# Altium footprint library Components.PcbLib: 15 footprints
Each footprint in its own frame and in the unit in brackets; x right, y up, seen from the top. Pads: shape width x height; smd on the part's side, far side on the other; paste and mask are expansions set on the pad; w line width, h text height; cw(c..) or ccw(c..) is an arc to the next point about the centre after c.
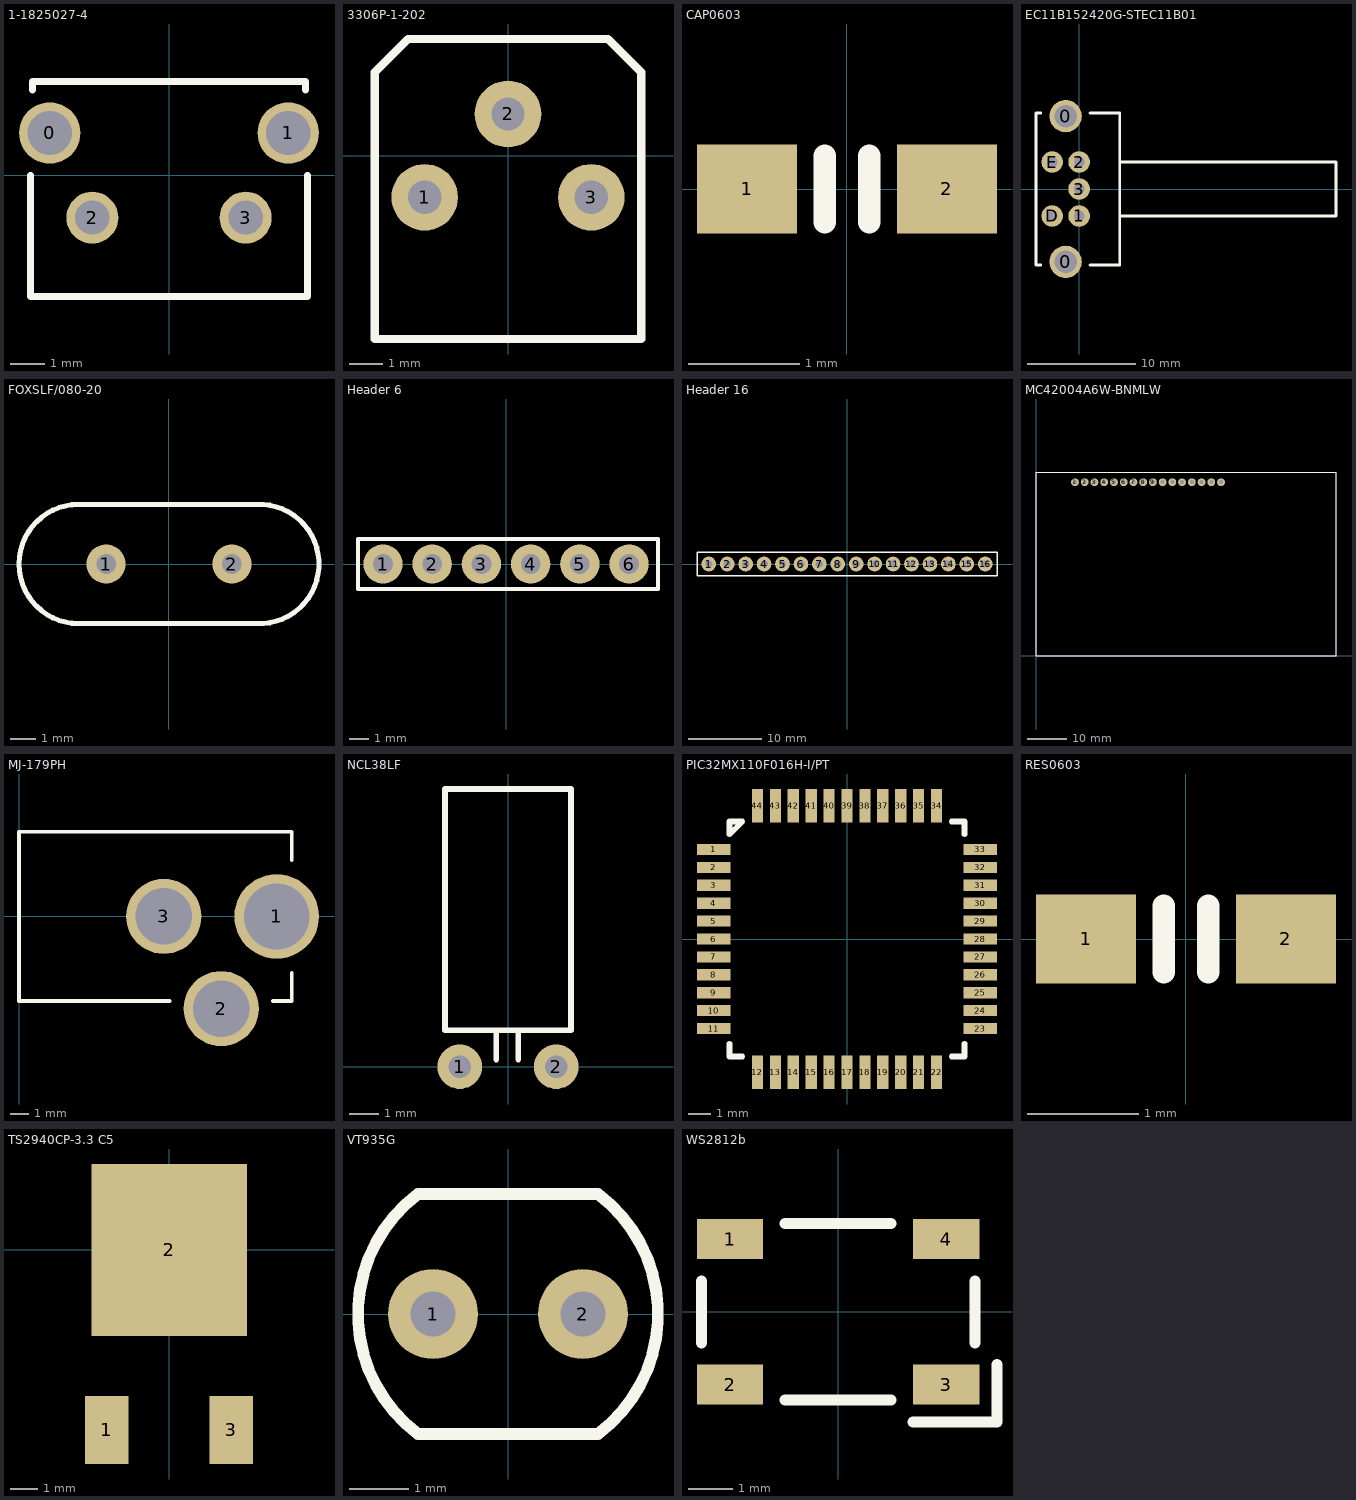
[diagram p0: the footprints below, top view; thin cyan lines are the x and y axes]

## 1-1825027-4 [mm] "Button"
pads (4):
  round 1.8 hole 1.3 unplated: 0(-3.5,1.24) 1(3.5,1.24)
  round 1.524 hole 1: 2(-2.25,-1.245) 3(2.25,-1.245)
Top Overlay:
  lines w0.2: -4.064,0 -4.064,-3.556 4.064,-3.556 4.064,0 ; -4,2.5 -4,2.75 -2.5,2.75 2.5,2.75 4,2.75 4,2.5
3D body: height 2.58, standoff 1.42, extent 1.389,-3 2.547,-2.8
3D body: height 2.58, standoff 1.42, extent -2.558,-3 -1.4,-2.8
3D body: height 6.58, standoff 5.42, extent 1.389,-3 2.547,-2.8
3D body: height 6.58, standoff 5.42, extent -2.558,-3 -1.4,-2.8
3D body: height 7, standoff 0, extent -3,-2.85 3,-2.6
3D body: height 5.74, standoff 2.25, extent -1.747,-3.3 1.746,-2.8
3D body: height 6.9, standoff 0.2, extent -3,-2.6 3,0.85
3D body: height 5, standoff 2, extent 3,-2.862 3.1,1.4
3D body: height 5, standoff 2, extent -3.1,-2.863 -3,1.8
3D body: height 5, standoff 0, extent -3.2,0.8 -3.1,1.8
3D body: height 5, standoff 0, extent 3.1,0.4 3.2,1.4

## 3306P-1-202 [mm] "Trimpot"
pads (3):
  round 2 hole 1: 1(-2.5,-1.25) 2(0,1.25) 3(2.5,-1.25)
Top Overlay:
  lines w0.254: -4,-5.5 -4,2.5 -3,3.5 -2.5,3.5 3,3.5 4,2.5 4,-5.5 -4,-5.5
3D body: height 3.51, standoff 0, extent 2.004,-1.749 3,-0.751
3D body: height 3.51, standoff 0, extent -0.496,0.751 0.5,1.749
3D body: height 3.51, standoff 0, extent -2.996,-1.749 -2,-0.751
3D body: height 4.51, standoff 3.51, extent -3.4,-5.1 3.4,2.95
3D body: height 8.06, standoff 4.55, extent -1.984,-2.896 2,1.096
3D body: height 8.04, standoff 4.53, extent -3.373,-4.293 3.4,2.493

## CAP0603 [mm]
pads (2):
  rect 0.9x0.8 smd: 1(-0.9,0) 2(0.9,0)
Top Overlay:
  lines w0.2: -0.2,-0.3 -0.2,0.3 ; 0.2,-0.3 0.2,0.3
3D body: height 1, standoff 0, extent -0.7,-0.525 0.7,0.525
3D body: height 1, standoff 0, extent -1,-0.525 -0.7,0.525
3D body: height 1, standoff 0, extent 0.7,-0.525 1,0.525

## EC11B152420G-STEC11B01 [mm]
pads (7):
  round 3 hole 2.1: 0(-1.25,-6.75) 0(-1.25,6.75)
  round 2 hole 1: 1(0,-2.5) 2(0,2.5) 3(0,0) D(-2.5,-2.5) E(-2.5,2.5)
Top Overlay:
  lines w0.254: -3.55,-7.05 -4,-7.05 -4,7.05 -3.55,7.05 ; 1,-7.05 3.75,-7.05 3.75,7.05 1,7.05 ; 3.75,-2.5 23.8,-2.5 23.8,2.5 3.75,2.5
3D body: height 6.9, standoff 6.1, extent 14.5,-2.275 24.025,2.275
3D body: height 8.73, standoff 4.25, extent 11,-2.241 12,2.25
3D body: height 13.75, standoff 0, extent 0.75,-7 3.5,7
3D body: height 13.75, standoff 0, extent -4,-7 0.75,7
3D body: height 9.48, standoff 3.5, extent 3.5,-2.99 4,2.999
3D body: height 8.98, standoff 4, extent 4,-2.491 11,2.5
3D body: height 8.73, standoff 4.25, extent 12,-2.241 24,2.25

## FOXSLF/080-20 [mil] "8MHz XTAL"
pads (2):
  round 60 hole 30: 1(-96.46,0) 2(96.46,0)
Top Overlay:
  lines w7.87: -139.69,-91.54 136.14,-91.54 ; -139.69,91.54 136.14,91.54 ; -138.5,-91.54 cw(c-138.5,0) -138.5,91.54 ; 134.96,-91.54 ccw(c138.5,0) 134.96,91.54
3D body: height 141.73, standoff 0, extent 63.94,-74.64 212.95,74.67
3D body: height 19.68, standoff 0, extent -223.72,-86.44 -51.17,86.45
3D body: height 19.68, standoff 0, extent -137.45,-86.44 138.14,86.45
3D body: height 141.73, standoff 0, extent -129.92,-74.8 129.92,74.8
3D body: height 19.68, standoff 0, extent 51.87,-86.44 224.42,86.45
3D body: height 141.73, standoff 0, extent -212,-74.65 -62.99,74.66

## Header 6 [mm] "Header 6"
pads (6):
  round 2 hole 1: 1(-6.25,0) 2(-3.75,0) 3(-1.25,0) 4(1.25,0) 5(3.75,0) 6(6.25,0)
Top Overlay:
  lines w0.2: -7.52,-1.27 -7.52,1.27 7.72,1.27 7.72,-1.27 -7.52,-1.27
3D body: height 7.48, standoff 2.92, extent -7.75,-1.5 8,1.5
3D body: height 2.92, standoff 0, extent -6.448,-0.199 -6.05,0.2
3D body: height 2.92, standoff 0, extent -3.948,-0.199 -3.55,0.2
3D body: height 2.92, standoff 0, extent -1.448,-0.199 -1.05,0.2
3D body: height 2.92, standoff 0, extent 1.052,-0.199 1.45,0.2
3D body: height 7.5, standoff 0, extent 3.056,-0.698 4.45,0.699
3D body: height 2.92, standoff 0, extent 6.052,-0.199 6.45,0.2

## Header 16 [mm] "Header 16"
pads (16):
  round 2 hole 1: 1(-18.75,0) 2(-16.25,0) 3(-13.75,0) 4(-11.25,0) 5(-8.75,0) 6(-6.25,0) 7(-3.75,0) 8(-1.25,0) 9(1.25,0) 10(3.75,0) 11(6.25,0) 12(8.75,0) 13(11.25,0) 14(13.75,0) 15(16.25,0) 16(18.75,0)
Top Overlay:
  lines w0.2: -20.35,-1.62 20.35,-1.62 20.35,1.62 -20.33,1.62 -20.35,1.6 -20.35,-1.62
3D body: height 7.48, standoff 2.92, extent -20.2,-1.5 20.2,1.5
3D body: height 2.92, standoff 0, extent -18.948,-0.2 -18.55,0.2
3D body: height 2.92, standoff 0, extent -16.448,-0.199 -16.05,0.2
3D body: height 2.92, standoff 0, extent -13.948,-0.199 -13.55,0.2
3D body: height 2.92, standoff 0, extent -11.448,-0.199 -11.05,0.2
3D body: height 2.92, standoff 0, extent -8.948,-0.199 -8.55,0.2
3D body: height 2.92, standoff 0, extent -3.948,-0.199 -3.55,0.2
3D body: height 2.92, standoff 0, extent -6.448,-0.199 -6.05,0.2
3D body: height 2.92, standoff 0, extent -1.448,-0.199 -1.05,0.2
3D body: height 2.92, standoff 0, extent 1.052,-0.199 1.45,0.2
3D body: height 2.92, standoff 0, extent 3.552,-0.199 3.95,0.2
3D body: height 2.92, standoff 0, extent 6.052,-0.199 6.45,0.2
3D body: height 2.92, standoff 0, extent 8.552,-0.199 8.95,0.2
3D body: height 2.92, standoff 0, extent 11.052,-0.199 11.45,0.2
3D body: height 2.92, standoff 0, extent 13.552,-0.199 13.95,0.2
3D body: height 2.92, standoff 0, extent 16.052,-0.199 16.45,0.2
3D body: height 2.92, standoff 0, extent 18.552,-0.199 18.95,0.2

## MC42004A6W-BNMLW [mm] "LCD"
pads (16):
  round 2 hole 1: 1(10,44.5) 2(12.5,44.5) 3(15,44.5) 4(17.5,44.5) 5(20,44.5) 6(22.5,44.5) 7(25,44.5) 8(27.5,44.5) 9(30,44.5) 10(32.5,44.5) 11(35,44.5) 12(37.5,44.5) 13(40,44.5) 14(42.5,44.5) 15(45,44.5) 16(47.5,44.5)
Top Overlay:
  lines w0.254: 0,0 77,0 77,47 0,47 0,0
Mechanical 1:
  lines w0.254: 0,0 77,0 77,47 0,47 0,0
3D body: height 14.28, standoff 9.28, extent -0.1,7.3 76.9,39.8
3D body: height 9.28, standoff 7.68, extent 0,0.2 77,46.8
3D body: height 11.28, standoff 9.28, extent -0.2,12.7 77.2,34.5
3D body: height 14.35, standoff 9.28, extent 8.6,12.7 68.5,34.5

## MJ-179PH [mm] "Powerjack"
pads (3):
  round 4.5 hole 3.5: 1(13.7,0)
  round 4 hole 3: 2(10.75,-4.9) 3(7.7,0)
Top Overlay:
  lines w0.2: 8,-4.5 0,-4.5 0,4.5 14.5,4.5 14.5,3 ; 13.5,-4.5 14.5,-4.5 14.5,-3
3D body: height 9.97, standoff 3, extent 0,-3.488 0.1,3.498
3D body: height 6.5, standoff 0, extent 3.5,-4.4 14.4,4.4
3D body: height 11, standoff 0, extent 0.1,-4.4 3.5,4.4
3D body: height 10.87, standoff 2.1, extent 3.4,-4.4 14.4,4.383

## NCL38LF [mil] "32kHz XTAL"
pads (2):
  round 60 hole 30: 1(-64.96,0) 2(64.96,0)
Top Overlay:
  lines w7.87: -15.75,9.84 -15.75,49.21 ; 13.78,9.84 13.78,49.21 ; -84.65,49.21 84.65,49.21 84.65,374.02 -84.65,374.02 -84.65,49.21
3D body: height 117.99, standoff -7.75, extent -62.5,48.23 62.99,375

## PIC32MX110F016H-I/PT [mm] "MCU"
pads (44):
  rect 1.5x0.5 smd: 1(-5.95,4) 2(-5.95,3.2) 3(-5.95,2.4) 4(-5.95,1.6) 5(-5.95,0.8) 6(-5.95,0) 7(-5.95,-0.8) 8(-5.95,-1.6) 9(-5.95,-2.4) 10(-5.95,-3.2) 11(-5.95,-4) 23(5.95,-4) 24(5.95,-3.2) 25(5.95,-2.4) 26(5.95,-1.6) 27(5.95,-0.8) 28(5.95,0) 29(5.95,0.8) 30(5.95,1.6) 31(5.95,2.4) 32(5.95,3.2) 33(5.95,4)
  rect 0.5x1.5 smd: 12(-4,-5.95) 13(-3.2,-5.95) 14(-2.4,-5.95) 15(-1.6,-5.95) 16(-0.8,-5.95) 17(0,-5.95) 18(0.8,-5.95) 19(1.6,-5.95) 20(2.4,-5.95) 21(3.2,-5.95) 22(4,-5.95) 34(4,5.95) 35(3.2,5.95) 36(2.4,5.95) 37(1.6,5.95) 38(0.8,5.95) 39(0,5.95) 40(-0.8,5.95) 41(-1.6,5.95) 42(-2.4,5.95) 43(-3.2,5.95) 44(-4,5.95)
Top Overlay:
  lines w0.254: -5.25,-4.675 -5.25,-5.25 -4.675,-5.25 ; 4.675,-5.25 5.25,-5.25 5.25,-4.675 ; 4.675,5.25 5.25,5.25 5.25,4.675 ; -5.25,4.675 -5.25,5.25 -4.675,5.25 -5.25,4.675
3D body: height 1, standoff 0, extent -5.05,-5.05 5.05,5.05
3D body: height 1.1, standoff 0.9, extent -4.397,3.601 -3.6,4.399

## RES0603 [mm]
pads (2):
  rect 0.9x0.8 smd: 1(-0.9,0) 2(0.9,0)
Top Overlay:
  lines w0.2: -0.2,-0.3 -0.2,0.3 ; 0.2,-0.3 0.2,0.3
3D body: height 1, standoff 0, extent 0.7,-0.525 1,0.525
3D body: height 1, standoff 0, extent -1,-0.525 -0.7,0.525
3D body: height 1, standoff 0, extent -0.7,-0.525 0.7,0.525

## TS2940CP-3.3 C5 [mm] "Voltage Regulator"
pads (3):
  rect 1.6x2.5 smd: 1(-2.3,-6.59) 3(2.27,-6.59)
  rect 5.7x6.3 smd: 2(0,0)
3D body: height 0.5, standoff 0, extent -0.312,-4.075 0.363,-3.15
3D body: height 2.3, standoff 0, extent -3.275,-3.15 3.325,3.15
3D body: height 0.5, standoff 0, extent -3,3.15 3,4.263

## VT935G [mil] "Photoconductive cell"
pads (2):
  round 60 hole 30: 1(-50,0) 2(50,0)
Top Overlay:
  lines w7.87: -60,-80 cw(c0,0) -60,80 60,80 cw(c0,0) 60,-80 -60,-80
3D body: height 70.08, standoff 0, extent -27.56,-75.79 35.43,73.82
3D body: height 70.08, standoff 0, extent -104.33,-75.49 44.69,73.82
3D body: height 70.08, standoff 0, extent -44.69,-75.49 104.33,73.82

## WS2812b [mm] "RGB Led"
pads (4):
  rect 1.5x0.9 smd: 1(-2.45,1.65) 2(-2.45,-1.65) 3(2.45,-1.65) 4(2.45,1.65)
Top Overlay:
  lines w0.254: -3.1,-0.7 -3.1,0.7 ; -1.2,-2 1.2,-2 ; -1.2,2 1.2,2 ; 1.7,-2.5 3.6,-2.5 3.6,-1.2 ; 3.1,-0.7 3.1,0.7
3D body: height 1, standoff 0, extent -2.5,-2.5 2.5,2.5
3D body: height 1.1, standoff 0, extent -2.183,-2.196 2.2,2.196
3D body: height 0.1, standoff 0, extent -2.9,-2.1 2.9,-1.2
3D body: height 0.1, standoff 0, extent -2.9,1.2 2.9,2.1